# EAGLE library part CC2430 (library chipcon-ti)
A True System-on-Chip solution for 2.4 GHz IEEE 802.15.4 / ZigBee
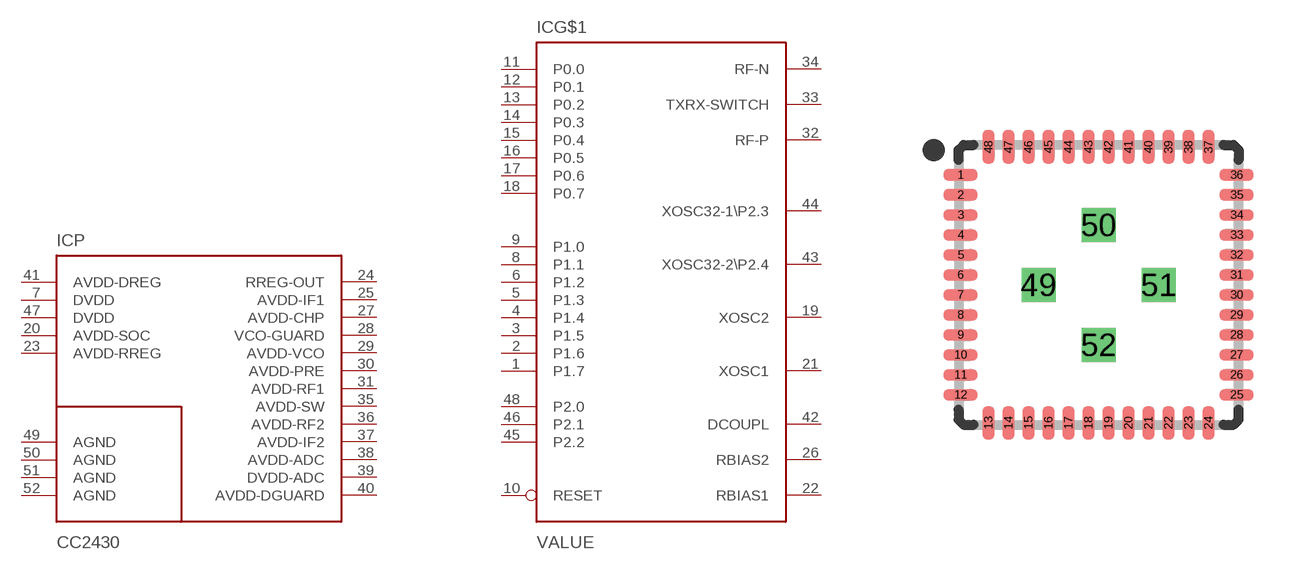
[diagram p11: symbol with the pads of QLP-48; footprint QLP-48]

Designator prefix IC; gates G$1=CC2430 P=CC2430-PWR

## CC2430  [QLP-48]
1  G$1:P1.7
2  G$1:P1.6
3  G$1:P1.5
4  G$1:P1.4
5  G$1:P1.3
6  G$1:P1.2
7  P:DVDD  pwr
8  G$1:P1.1
9  G$1:P1.0
10  G$1:RESET  in
11  G$1:P0.0
12  G$1:P0.1
13  G$1:P0.2
14  G$1:P0.3
15  G$1:P0.4
16  G$1:P0.5
17  G$1:P0.6
18  G$1:P0.7
19  G$1:XOSC2
20  P:AVDD-SOC  pwr
21  G$1:XOSC1
22  G$1:RBIAS1
23  P:AVDD-RREG  pwr
24  P:RREG-OUT  sup
25  P:AVDD-IF1  pwr
26  G$1:RBIAS2  pwr
27  P:AVDD-CHP  pwr
28  P:VCO-GUARD  pwr
29  P:AVDD-VCO  pwr
30  P:AVDD-PRE  pwr
31  P:AVDD-RF1  pwr
32  G$1:RF-P
33  G$1:TXRX-SWITCH  out
34  G$1:RF-N
35  P:AVDD-SW  pwr
36  P:AVDD-RF2  pwr
37  P:AVDD-IF2  pwr
38  P:AVDD-ADC  pwr
39  P:DVDD-ADC  pwr
40  P:AVDD-DGUARD  pwr
41  P:AVDD-DREG  pwr
42  G$1:DCOUPL
43  G$1:XOSC32-2\P2.4
44  G$1:XOSC32-1\P2.3
45  G$1:P2.2
46  G$1:P2.1
47  P:DVDD  pwr
48  G$1:P2.0
49  P:AGND  pwr
50  P:AGND  pwr
51  P:AGND  pwr
52  P:AGND  pwr

## Footprint QLP-48 (pad centres in mm)
QFN50P700X700X90-52N
smd 0.85 x 0.3: 1 -3.45,2.75; 2 -3.45,2.25; 3 -3.45,1.75; 4 -3.45,1.25; 5 -3.45,0.75; 6 -3.45,0.25; 7 -3.45,-0.25; 8 -3.45,-0.75; 9 -3.45,-1.25; 10 -3.45,-1.75; 11 -3.45,-2.25; 12 -3.45,-2.75; 25 3.45,-2.75; 26 3.45,-2.25; 27 3.45,-1.75; 28 3.45,-1.25; 29 3.45,-0.75; 30 3.45,-0.25; 31 3.45,0.25; 32 3.45,0.75; 33 3.45,1.25; 34 3.45,1.75; 35 3.45,2.25; 36 3.45,2.75
smd 0.3 x 0.85: 13 -2.75,-3.45; 14 -2.25,-3.45; 15 -1.75,-3.45; 16 -1.25,-3.45; 17 -0.75,-3.45; 18 -0.25,-3.45; 19 0.25,-3.45; 20 0.75,-3.45; 21 1.25,-3.45; 22 1.75,-3.45; 23 2.25,-3.45; 24 2.75,-3.45; 37 2.75,3.45; 38 2.25,3.45; 39 1.75,3.45; 40 1.25,3.45; 41 0.75,3.45; 42 0.25,3.45; 43 -0.25,3.45; 44 -0.75,3.45; 45 -1.25,3.45; 46 -1.75,3.45; 47 -2.25,3.45; 48 -2.75,3.45
drill 0.25 pad 0.85 square: 49 -1.5,0; 50 0,1.5; 51 1.5,0; 52 0,-1.5